# Altium schematic symbol library ECH-U1C104JX5.SchLib: 1 symbol
Pins are listed as number, name and electrical type; pins without a type are passive.

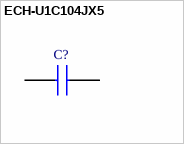
[diagram p0: symbol ECH-U1C104JX5]

## ECH-U1C104JX5
designator C?
Plastic Film Capacitor, Stacked metallized PPS film as dielectric with simple mold-less construction; Manufacturer_Name: Panasonic; Mouser Part Number: 667-ECH-U1C104JX5; Mouser Price/Stock: https://www.mouser.co.uk/ProductDetail/Panasonic/ECH-U1C104JX5?qs=b%252BB9euYP3EMLLnBUsHao4g%3D%3D; Manufacturer_Part_Number: ECH-U1C104JX5; Datasheet Link: http://industrial.panasonic.com/cdbs/www-data/pdf/RDI0000/ABD0000C173.pdf
footprint ECHU_G3_18
pins: 1, 2